# Altium schematic symbol library 74AHC30.SchLib: 1 symbol
Pins are listed as number, name and electrical type; pins without a type are passive.

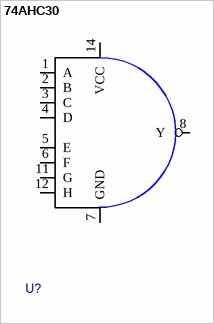
[diagram p0: symbol 74AHC30]

## 74AHC30
designator U?
pins: 1 A, 2 B, 3 C, 4 D, 5 E, 6 F, 7 GND, 8 Y, 11 G, 12 H, 14 VCC